# Altium integrated library WS-TASV J-Bend SMD Tact Switch 6.0X3.5 mm.IntLib: 8 symbols
Pins are listed as number, name and electrical type; pins without a type are passive.

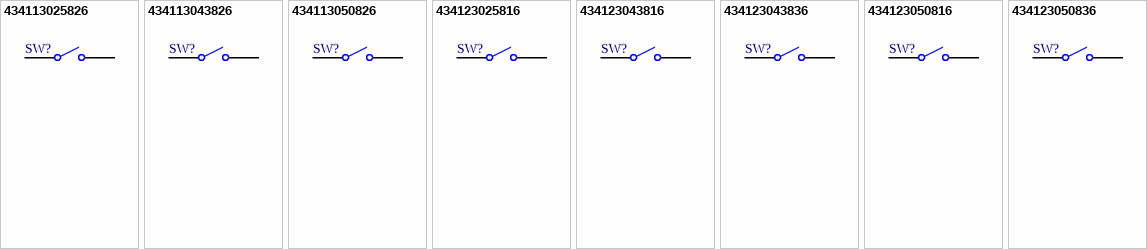
[diagram p0: symbols 434113025826 to 434123050836]

## 434113025826
designator SW?
WS-TASV J-Bend SMD Tact Switch 6.0X3.8 mm; PartNumber: 434113025826; NoPins: 02; PackageReference: 434113025826; ComponentLink1Description: Manufacturer URL; ComponentLink1URL: http://www.we-online.com; ComponentLink2Description: Datasheet; ComponentLink2URL: http://katalog.we-online.de/em/datasheet/434113025826.pdf
footprint 434113025826 (6.0*3.8mm vertical type, J-Bend SMD, height 2.5mm, white actuator, 260gf, T&R)
pins: 1, 2

## 434113043826
designator SW?
WS-TASV J-Bend SMD Tact Switch 6.0X3.5 mm; PartNumber: 434113043826; NoPins: 02; PackageReference: 434113043826; ComponentLink1Description: Manufacturer URL; ComponentLink1URL: http://www.we-online.com; ComponentLink2Description: Datasheet; ComponentLink2URL: http://katalog.we-online.de/em/datasheet/434113043826.pdf
footprint 434113043826 (6.0*3.5mm vertical type, J-Bend SMD, height 4.3mm, white actuator, 260gf, T&R)
pins: 1, 2

## 434113050826
designator SW?
WS-TASV J-Bend SMD Tact Switch 6.0X3.5 mm; PartNumber: 434113050826; NoPins: 02; PackageReference: 434113050826; ComponentLink1Description: Manufacturer URL; ComponentLink1URL: http://www.we-online.com; ComponentLink2Description: Datasheet; ComponentLink2URL: http://katalog.we-online.de/em/datasheet/434113050826.pdf
footprint 434113050826 (6.0*3.5mm vertical type, J-Bend SMD, height 5.0mm, white actuator, 260gf, T&R)
pins: 1, 2

## 434123025816
designator SW?
WS-TASV J-Bend SMD Tact Switch 6.0X3.8 mm; PartNumber: 434123025816; NoPins: 02; PackageReference: 434123025816; ComponentLink1Description: Manufacturer URL; ComponentLink1URL: http://www.we-online.com; ComponentLink2Description: Datasheet; ComponentLink2URL: http://katalog.we-online.de/em/datasheet/434123025816.pdf
footprint 434123025816 (6.0*3.8mm vertical type,J-Bend SMD, height 2.5mm, black actuator, 160gf, T&R)
pins: 1, 2

## 434123043816
designator SW?
WS-TASV J-Bend SMD Tact Switch 6.0X3.5 mm; PartNumber: 434123043816; NoPins: 02; PackageReference: 434123043816; ComponentLink1Description: Manufacturer URL; ComponentLink1URL: http://www.we-online.com; ComponentLink2Description: Datasheet; ComponentLink2URL: http://katalog.we-online.de/em/datasheet/434123043816.pdf
footprint 434123043816 (6.0*3.5mm vertical type, J-Bend SMD, height 4.3mm, black actuator, 160gf, T&R)
pins: 1, 2

## 434123043836
designator SW?
WS-TASV J-Bend SMD Tact Switch 6.0X3.5 mm; PartNumber: 434123043836; NoPins: 02; PackageReference: 434123043836; ComponentLink1Description: Manufacturer URL; ComponentLink1URL: http://www.we-online.com; ComponentLink2Description: Datasheet; ComponentLink2URL: http://katalog.we-online.de/em/datasheet/434123043836.pdf
footprint 434123043836 (6.0*3.5mm vertical type, J-Bend SMD,  height 4.3mm, salmon actuator, 360gf, T&R)
pins: 1, 2

## 434123050816
designator SW?
WS-TASV J-Bend SMD Tact Switch 6.0X3.5 mm; PartNumber: 434123050816; NoPins: 02; PackageReference: 434123050816; ComponentLink1Description: Manufacturer URL; ComponentLink1URL: http://www.we-online.com; ComponentLink2Description: Datasheet; ComponentLink2URL: http://katalog.we-online.de/em/datasheet/434123050816.pdf
footprint 434123050816 (6.0*3.5mm vertical type, J-Bend SMD, height 5.0mm, black actuator, 160gf, T&R)
pins: 1, 2

## 434123050836
designator SW?
WS-TASV J-Bend SMD Tact Switch 6.0X3.5 mm; PartNumber: 434123050836; NoPins: 02; PackageReference: 434123050836; ComponentLink1Description: Manufacturer URL; ComponentLink1URL: http://www.we-online.com; ComponentLink2Description: Datasheet; ComponentLink2URL: http://katalog.we-online.de/em/datasheet/434123050836.pdf
footprint 434123050836 (6.0*3.5mm vertical type, J-Bend SMD, height 5.0mm, salmon actuator, 360gf, T&R)
pins: 1, 2